# Altium schematic symbol library sym-0020.SchLib: 1 symbol
Pins are listed as number, name and electrical type; pins without a type are passive.

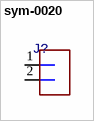
[diagram p0: symbol sym-0020]

## sym-0020
designator J?
General 2-Pin Connector
pins: 1, 2